# Altium schematic symbol library BJT-PNP.SchLib: 1 symbol
Pins are listed as number, name and electrical type; pins without a type are passive.

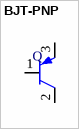
[diagram p0: symbol BJT-PNP]

## BJT-PNP
designator Q
MP: BCX53-16,115; MF: Nexperia USA; Package: SOT-89-3 Nexperia; Price: None; Availability: Unavailable; Value: *; SnapEDA_Link: https://www.snapeda.com/parts/BCX53-16,115/Nexperia%20USA%20Inc./view-part/1098173/?ref=snap
footprint SOT89R_INFINEON
pins: 1 B, 2 C, 3 E